# EAGLE library part MF2X12M (library gost_con_mini-fit)
Molex Mini-Fit Jr.™ Connectors
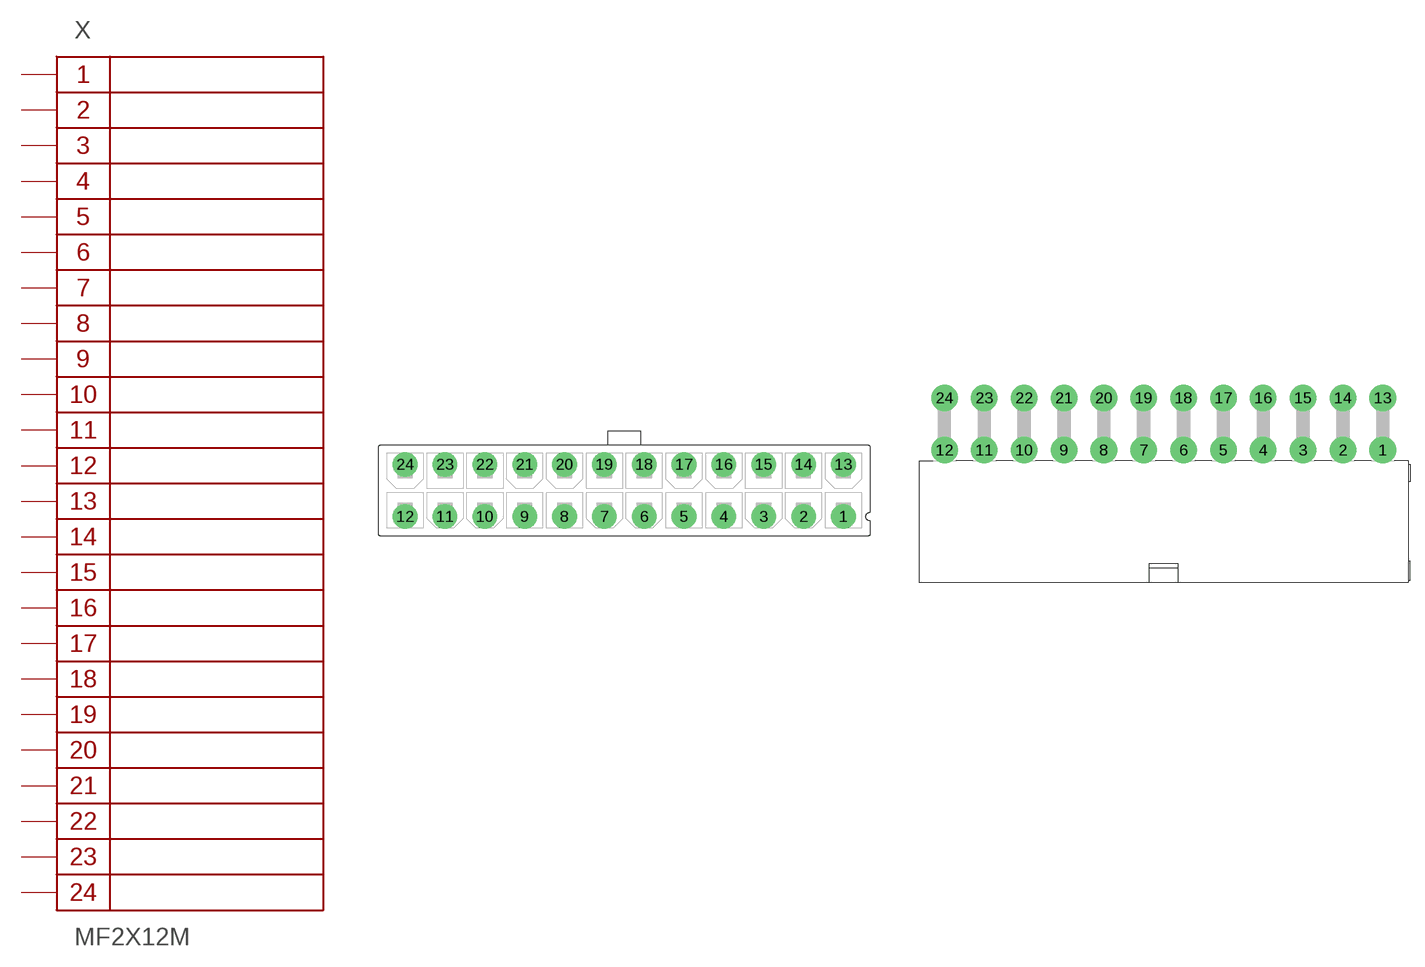
[diagram p11: symbol with the pads of MF2X12MA; footprints MF2X12MA, MF2X12MR]

Designator prefix X

## MF2X12MA  [MF2X12MA]
1  1
2  2
3  3
4  4
5  5
6  6
7  7
8  8
9  9
10  10
11  11
12  12
13  13
14  14
15  15
16  16
17  17
18  18
19  19
20  20
21  21
22  22
23  23
24  24

## MF2X12MR  [MF2X12MR]
Pads as for MF2X12MA

## MF2X12MRA  [MF2X12MRA]
Pads as for MF2X12MA

## MF2X12MRB  [MF2X12MRB]
Pads as for MF2X12MA

## Footprint MF2X12MA (pad centres in mm)
drill 1.4 pad 2.6: 1 23.1,-2.75; 2 18.9,-2.75; 3 14.7,-2.75; 4 10.5,-2.75; 5 6.3,-2.75; 6 2.1,-2.75; 7 -2.1,-2.75; 8 -6.3,-2.75; 9 -10.5,-2.75; 10 -14.7,-2.75; 11 -18.9,-2.75; 12 -23.1,-2.75; 13 23.1,2.75; 14 18.9,2.75; 15 14.7,2.75; 16 10.5,2.75; 17 6.3,2.75; 18 2.1,2.75; 19 -2.1,2.75; 20 -6.3,2.75; 21 -10.5,2.75; 22 -14.7,2.75; 23 -18.9,2.75; 24 -23.1,2.75

## Footprint MF2X12MR (pad centres in mm)
drill 1.8 pad 2.8: 1 23.1,-2.1; 2 18.9,-2.1; 3 14.7,-2.1; 4 10.5,-2.1; 5 6.3,-2.1; 6 2.1,-2.1; 7 -2.1,-2.1; 8 -6.3,-2.1; 9 -10.5,-2.1; 10 -14.7,-2.1; 11 -18.9,-2.1; 12 -23.1,-2.1; 13 23.1,3.4; 14 18.9,3.4; 15 14.7,3.4; 16 10.5,3.4; 17 6.3,3.4; 18 2.1,3.4; 19 -2.1,3.4; 20 -6.3,3.4; 21 -10.5,3.4; 22 -14.7,3.4; 23 -18.9,3.4; 24 -23.1,3.4

## Footprint MF2X12MRA (pad centres in mm)
drill 1.8 pad 2.8: 1 23.1,-2.1; 2 18.9,-2.1; 3 14.7,-2.1; 4 10.5,-2.1; 5 6.3,-2.1; 6 2.1,-2.1; 7 -2.1,-2.1; 8 -6.3,-2.1; 9 -10.5,-2.1; 10 -14.7,-2.1; 11 -18.9,-2.1; 12 -23.1,-2.1; 13 23.1,3.4; 14 18.9,3.4; 15 14.7,3.4; 16 10.5,3.4; 17 6.3,3.4; 18 2.1,3.4; 19 -2.1,3.4; 20 -6.3,3.4; 21 -10.5,3.4; 22 -14.7,3.4; 23 -18.9,3.4; 24 -23.1,3.4
hole 3 at 23.1,-9.4
hole 3 at -23.1,-9.4

## Footprint MF2X12MRB (pad centres in mm)
drill 1.8 pad 2.8: 1 23.1,-2.1; 2 18.9,-2.1; 3 14.7,-2.1; 4 10.5,-2.1; 5 6.3,-2.1; 6 2.1,-2.1; 7 -2.1,-2.1; 8 -6.3,-2.1; 9 -10.5,-2.1; 10 -14.7,-2.1; 11 -18.9,-2.1; 12 -23.1,-2.1; 13 23.1,3.4; 14 18.9,3.4; 15 14.7,3.4; 16 10.5,3.4; 17 6.3,3.4; 18 2.1,3.4; 19 -2.1,3.4; 20 -6.3,3.4; 21 -10.5,3.4; 22 -14.7,3.4; 23 -18.9,3.4; 24 -23.1,3.4
hole 2.4 at 27.7,-6.3
hole 2.4 at -27.7,-6.3